# EAGLE library part LM5085MY/NOPB (library LM5085)
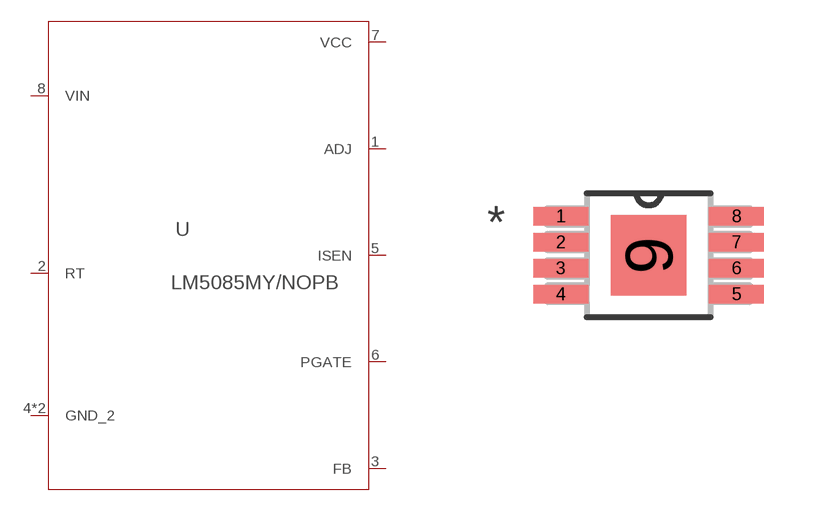
[diagram p0: symbol with the pads of MUY08A; footprint MUY08A]

Designator prefix -

## LM5085MY/NOPB (DATASHEETURL: http://www.ti.com/product/lm5085; FREQUENCY: 2000000.0; IMAX: 12.0; MANUFACTURER_NAME: Texas Instruments; MANUFACTURER_PART_NUMBER: LM5085MY/NOPB; MKTG_PACKAGE: NA; NSID: LM5085MM/NOPB; PACKAGE: NA; VENDOR: Texas Instruments)  [MUY08A]
1  ADJ  pas
2  RT  pas
3  FB  pas
4  GND_2  pas
5  ISEN  pas
6  PGATE  pas
7  VCC  pas
8  VIN  pas
9  GND_2  pas

## Footprint MUY08A (pad centres in mm)
smd 1.372 x 0.457: 1 -2.197,0.975; 2 -2.197,0.325; 3 -2.197,-0.325; 4 -2.197,-0.975; 5 2.197,-0.975; 6 2.197,-0.325; 7 2.197,0.325; 8 2.197,0.975
smd 1.88 x 2.007: 9 0,0